# Altium schematic symbol library 场效应管.SchLib: 6 symbols
Pins are listed as number, name and electrical type; pins without a type are passive.

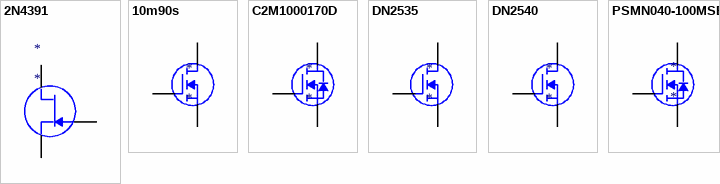
[diagram p0: symbols 2N4391 to PSMN040-100MSE]

## 2N4391
designator *
N沟道JFET开关管 40V/150ma
footprint TO39; pin to pad 2>3 3>2
footprint TO-18 (Can; 3 Leads; Pin Circle Dia. 2.54 mm; Lead Dia. 0.48 mm (max)); pin to pad 2>3 3>2
footprint TO-18_SMALLHOLE (Can; 3 Leads; Pin Circle Dia. 2.54 mm; Lead Dia. 0.48 mm (max)); pin to pad 2>3 3>2
pins: 1 S, 2 G, 3 D

## 10m90s
designator *
IC恒流源  900v 100ma
footprint TO220V; pin to pad 1>3 2>1 3>2
footprint TO220H; pin to pad 1>3 2>1 3>2
pins: 1 S, 2 G, 3 D

## C2M1000170D
designator *
N沟道增强型 Z-FET MOS场效应管 1000v 5A
footprint TO247V; pin to pad 1>3 2>1 3>2
footprint TO247H; pin to pad 1>3 2>1 3>2
pins: 1 S, 2 G, 3 D

## DN2535
designator *
N沟道耗尽型DMOS场效应管 350V/150ma
footprint TO220V; pin to pad 1>3 2>1 3>2
footprint TO92A
pins: 1 S, 2 G, 3 D

## DN2540
designator *
N沟道耗尽型DMOS场效应管 400V/150ma
footprint TO92A
footprint TO220V; pin to pad 1>3 2>1 3>2
pins: 1 S, 2 G, 3 D

## PSMN040-100MSE
designator *
N-channel 100 V 36.6 mΩ standard level MOSFET
footprint SOT-1210 (SOT223, 4-Leads, Body 6.5x3.5mm, Pitch 2.3mm, Lead Span 7mm, IPC High Density)
footprint SOT-1210-BL (SOT223, 4-Leads, Body 6.5x3.5mm, Pitch 2.3mm, Lead Span 7mm, IPC High Density)
pins: 1 S, 2 G, 3 D